# EAGLE library part 162A (library lcd_displays)
DisplayTech LED 162 w. Backlight Controller. KS0070B
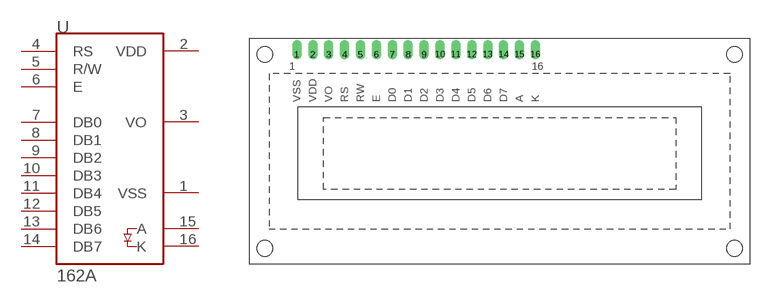
[diagram p0: symbol with the pads of 162A; footprint 162A]

Designator prefix -

## 162A  [162A]
1  VSS  pwr
2  VDD  pwr
3  VO  in
4  RS
5  R/W
6  E
7  DB0
8  DB1
9  DB2
10  DB3
11  DB4
12  DB5
13  DB6
14  DB7
15  A  pwr
16  K  pwr

## Footprint 162A (pad centres in mm)
LCD 162 (16 Chars in 2 rows) Displaytech (reichelt.de)
drill 1.016 offset: 1 -32.386,15.503; 2 -29.846,15.503; 3 -27.306,15.503; 4 -24.766,15.503; 5 -22.226,15.503; 6 -19.686,15.503; 7 -17.146,15.503; 8 -14.606,15.503; 9 -12.066,15.503; 10 -9.526,15.503; 11 -6.986,15.503; 12 -4.446,15.503; 13 -1.906,15.503; 14 0.634,15.503; 15 3.174,15.503; 16 5.714,15.503